# EAGLE library part MCP1640 (library pulseoxparts)
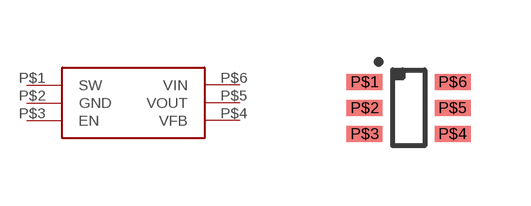
[diagram p1: symbol with the pads of SOT23-6; footprint SOT23-6]

Designator prefix -

## MCP1640  [SOT23-6]
P$1  SW
P$2  GND
P$3  EN
P$4  VFB
P$5  VOUT
P$6  VIN

## Footprint SOT23-6 (pad centres in mm)
smd 0.9 x 0.4: P$1 -1.1,0.65; P$2 -1.1,0; P$3 -1.1,-0.65; P$4 1.1,-0.65; P$5 1.1,0; P$6 1.1,0.65